# Altium schematic symbol library RPUM.SchLib: 1 symbol
Pins are listed as number, name and electrical type; pins without a type are passive.

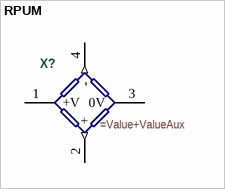
[diagram p0: symbol RPUM]

## RPUM
designator X?
=Description
pins: 1 +V, 2 + (out), 3 0V, 4 - (out)